# EAGLE library part LTC6252X (library ltc625x)
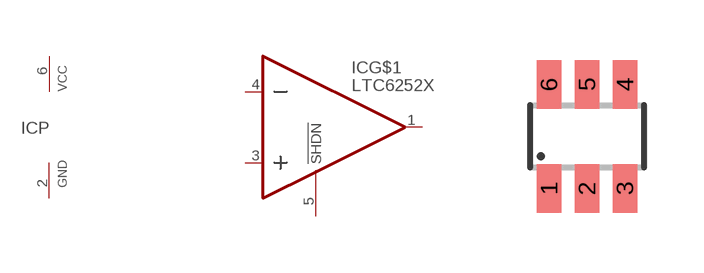
[diagram p0: symbol with the pads of TSOT23-6; footprint TSOT23-6]

Designator prefix IC; gates P=POWER G$1=OPAMP-SHDN

## LTC6252XXS6  [TSOT23-6]
1  G$1:OUT  out
2  P:V-  pwr
3  G$1:+IN  in
4  G$1:-IN  in
5  G$1:!SHDN  out
6  P:V+  pwr

## Footprint TSOT23-6 (pad centres in mm)
S6 Package 6-Lead Plastic TSOT-23 Source: http://cds.linear.com/docs/Datasheet/623012fb.pdf
smd 0.62 x 1.22: 1 -0.95,-1.3; 2 0,-1.3; 3 0.95,-1.3; 4 0.95,1.3; 5 0,1.3; 6 -0.95,1.3